# Altium integrated library 215309-9.IntLib: 1 symbol
Pins are listed as number, name and electrical type; pins without a type are passive.

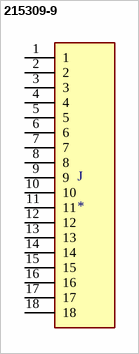
[diagram p0: symbol 215309-9]

## 215309-9
designator J
2X9P HV100 REC CON. TE, 8.5MM; MP: 215309-9; Number_of_Positions: 9; Centerline_Pitch: 2.54 mm[.1 in]; MF: TE Connectivity; Product_Type: Connector; Package: None; Availability: Unavailable; TE_purchase_URL: https://www.te.com/usa-en/product-215309-9.html?te_bu=Cor&te_type=disp&te_campaign=seda_glo_cor-seda-global-disp-prtnr-fy19-seda-model-bom-cta_sma-317_1&elqCampaignId=32493; EU_RoHS_Compliance: Compliant; SnapEDA_Link: https://www.snapeda.com/parts/215309-9/TE%20Connectivity%20AMP%20Connectors/view-part/1389782/?ref=snap; Price: None; Value: *
footprint TE_215309-9
pins: 1, 2, 3, 4, 5, 6, 7, 8, 9, 10, 11, 12, 13, 14, 15, 16, 17, 18